# Altium schematic symbol library connectors.SchLib: 47 symbols
Pins are listed as number, name and electrical type; pins without a type are passive.

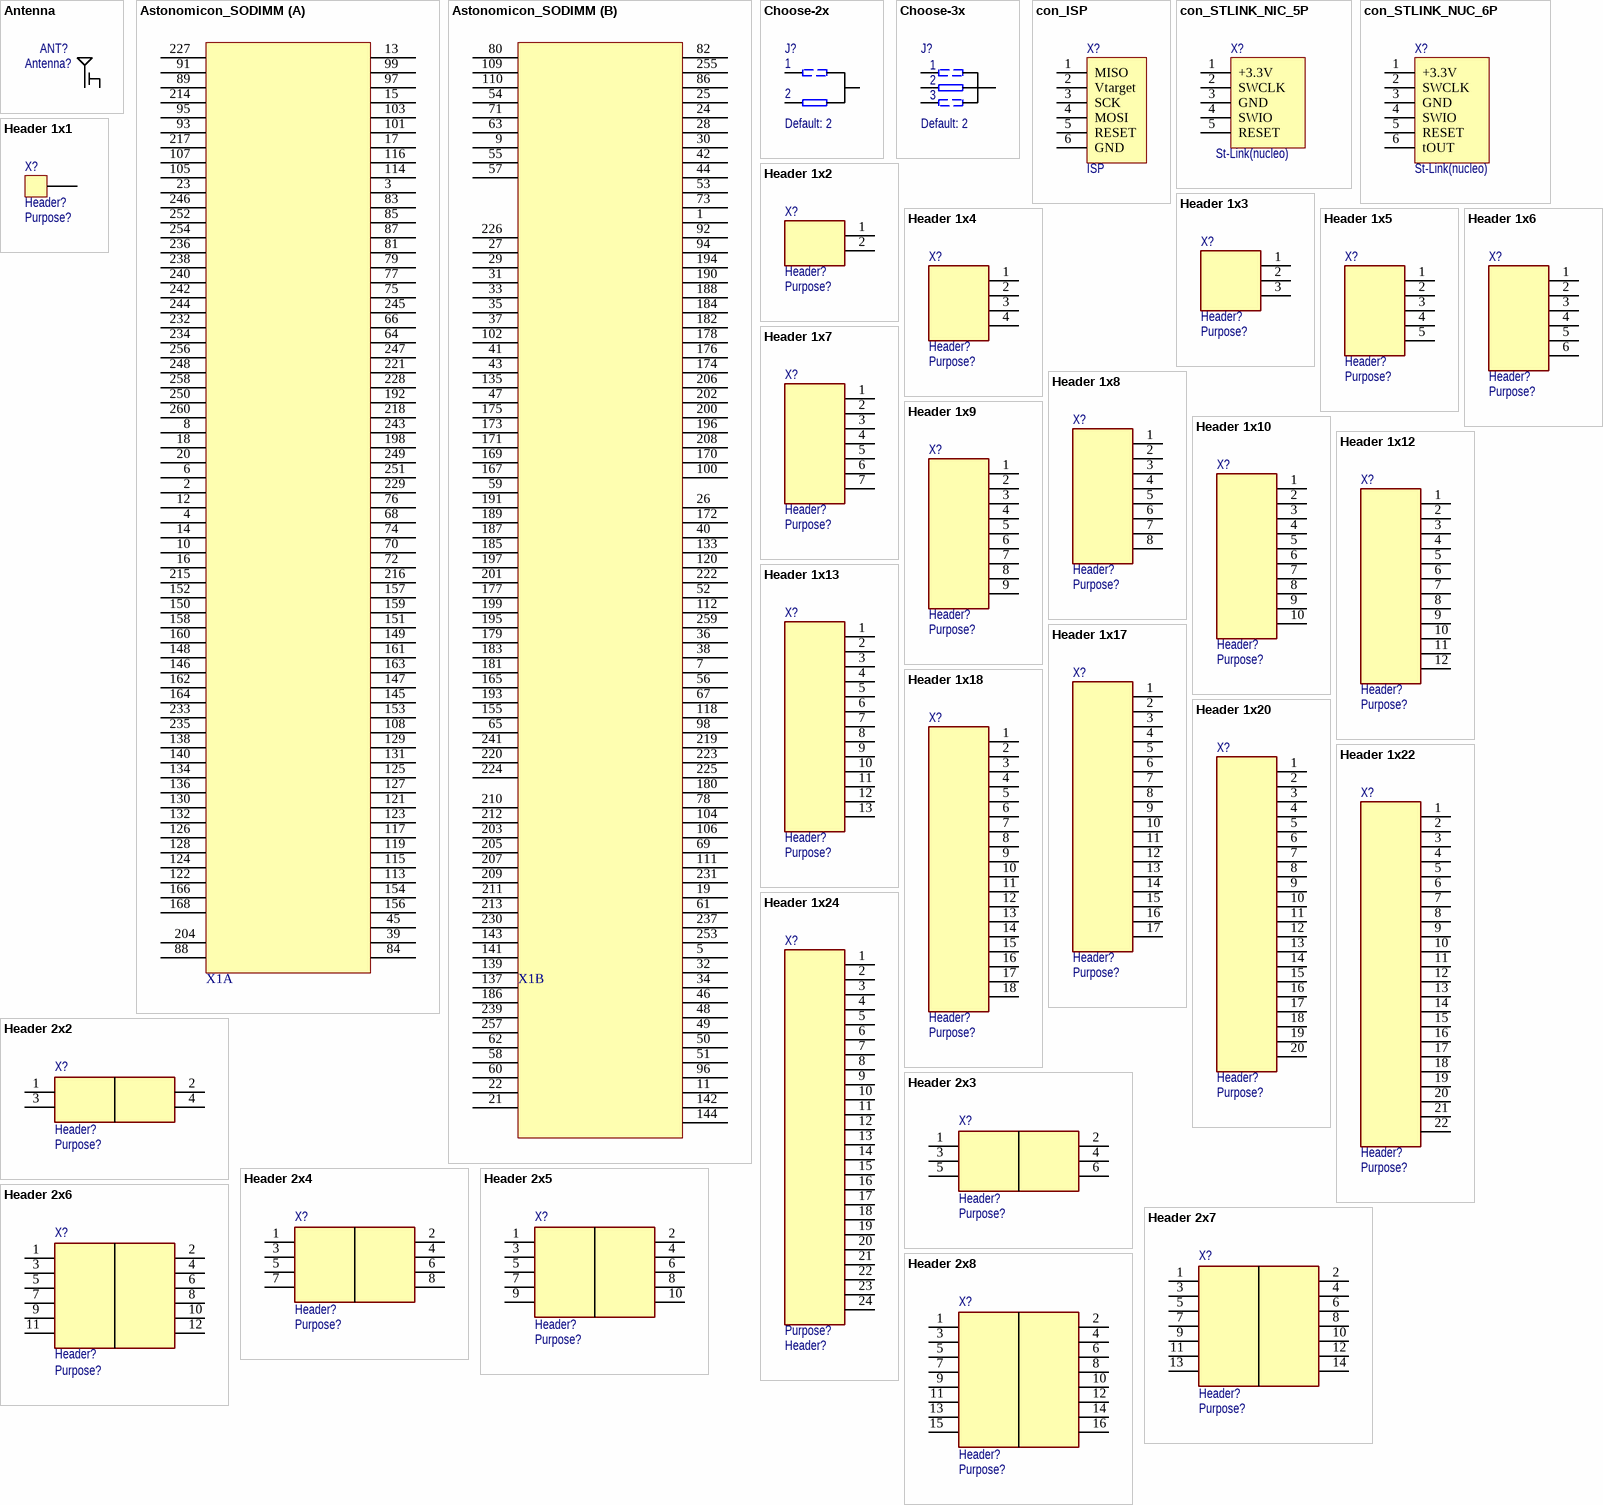
[diagram p0: symbols Antenna to Header 2x8]

## Antenna
designator ANT?, comment Antenna?
HF con; IsSMT: NoSMT
footprint SMA-SMD-F
footprint SMA-SMD-M
footprint SMA-VERT-M
footprint SMA-VERT-F
footprint SMA-SIDE-M
footprint SMA-SIDE-F
footprint IPEX-3P
pins: 0, 1

## Astonomicon_SODIMM
designator X1, comment None  (value not drawn)
DIMM connector
footprint DIMM_SOC
footprint SODIMM-260
part A pins: 2, 3, 4, 6, 8, 10, 12, 13, 14, 15, 16, 17, 18, 20, 23, 39, 45, 64, 66, 68, 70, 72, 74, 75, 76, 77, 79, 81, 83, 84, 85, 87, 88, 89, 91, 93, 95, 97, 99, 101, 103, 105, 107, 108, 113, 114, 115, 116, 117, 119, 121, 122, 123, 124, 125, 126, 127, 128, 129, 130, 131, 132, 134, 136, 138, 140, 145, 146, 147, 148, 149, 150, 151, 152, 153, 154, 156, 157, 158, 159, 160, 161, 162, 163, 164, 166, 168, 192, 198, 204, 214, 215, 216, 217, 218, 221, 227, 228, 229, 232, 233, 234, 235, 236, 238, 240, 242, 243, 244, 245, 246, 247, 248, 249, 250, 251, 252, 254, 256, 258, 260
part B pins: 1, 5, 7, 9, 11, 19, 21, 22, 24, 25, 26, 27, 28, 29, 30, 31, 32, 33, 34, 35, 36, 37, 38, 40, 41, 42, 43, 44, 46, 47, 48, 49, 50, 51, 52, 53, 54, 55, 56, 57, 58, 59, 60, 61, 62, 63, 65, 67, 69, 71, 73, 78, 80, 82, 86, 92, 94, 96, 98, 100, 102, 104, 106, 109, 110, 111, 112, 118, 120, 133, 135, 137, 139, 141, 142, 143, 144, 155, 165, 167, 169, 170, 171, 172, 173, 174, 175, 176, 177, 178, 179, 180, 181, 182, 183, 184, 185, 186, 187, 188, 189, 190, 191, 193, 194, 195, 196, 197, 199, 200, 201, 202, 203, 205, 206, 207, 208, 209, 210, 211, 212, 213, 219, 220, 222, 223, 224, 225, 226, 230, 231, 237, 239, 241, 253, 255, 257, 259

## Choose-2x
designator J?  DefaultPosition: Default: 2  (hidden comment: Choose-2x)
variable connector
footprint JUMPER_CHOOSE_2x
pins: 1 12, 2 12, 3 11

## Choose-3x
designator J?  DefaultPosition: Default: 2  (hidden comment: Choose-3x)
variable connector
footprint JUMPER_CHOOSE_3x
pins: 1 12, 2 12, 3 11, 4 12

## con_ISP
designator X?, comment ISP
3x2 header for ISP
footprint PLD-6-2.54
pins: 1 MISO, 2 Vtarget, 3 SCK, 4 MOSI, 5 RESET, 6 GND

## con_STLINK_NIC_5P
designator X?, comment St-Link(nucleo)
standart nucleo programming connector
footprint PLS-5-2.54
pins: 1 +3.3V, 2 SWCLK, 3 GND, 4 SWIO, 5 RESET

## con_STLINK_NUC_6P
designator X?, comment St-Link(nucleo)
standart nucleo programming connector
footprint PLS-6-2.54
pins: 1 +3.3V, 2 SWCLK, 3 GND, 4 SWIO, 5 RESET, 6 tOUT

## Header 1x1
designator X?, comment Header?  Purpose: Purpose?
Header 1 pin; IsSMT: NoSMT
footprint TestPoint
footprint PLS-1-2.54
pins: 1

## Header 1x2
designator X?, comment Header?  Purpose: Purpose?
2x1 header; isSMT: NoSMT
footprint PBS-2-2.54
footprint PLS-2-2.54
footprint PLS-2R-2.54
footprint CLEMM-2
footprint PicoBlade_2P
footprint CWF-2
footprint ZH-2
footprint JST_SMD_2
pins: 1, 2

## Header 1x3
designator X?, comment Header?  Purpose: Purpose?
3x1 header; IsSMT: NoSMT
footprint PBS-3-2.54
footprint PLS-3-2.54
footprint PLS-3R-2.54
pins: 1, 2 10, 3 11

## Header 1x4
designator X?, comment Header?  Purpose: Purpose?
4x1 header; IsSMT: NoSMT
footprint PLS-4-2.54
footprint PLS-4R-2.54
footprint PBS-4-2.54
footprint PicoBlade_4P
footprint JST-4_SMD_R
footprint JST_SMDR_4
pins: 1 10, 2 11, 3 12, 4 13

## Header 1x5
designator X?, comment Header?  Purpose: Purpose?
5x1 header; IsSMT: NoSMT
footprint PBS-5-2.54
footprint PLS-5-2.54
footprint PLS-5R-2.54
pins: 1 10, 2 11, 3 12, 4 13, 5 14

## Header 1x6
designator X?, comment Header?  Purpose: Purpose?
6x1 header; IsSMT: NoSMT
footprint PBS-6-2.54
footprint PLS-6-2.54
footprint PLS-6R-2.54
footprint JST-6_SMD_R
pins: 1, 2 13, 3, 4, 5, 6

## Header 1x7
designator X?, comment Header?  Purpose: Purpose?
7x1 header; IsSMT: NoSMT
footprint PBS-7-2.54
footprint PLS-7-2.54
footprint PLS-7R-2.54
pins: 1, 2 13, 3, 4, 5, 6, 7

## Header 1x8
designator X?, comment Header?  Purpose: Purpose?
8x1 header; IsSMT: NoSMT
footprint PBS-8-2.54
footprint PLS-8-2.54
footprint PLS-8R-2.54
pins: 1, 2, 3, 4, 5, 6, 7, 8

## Header 1x9
designator X?, comment Header?  Purpose: Purpose?
9x1 Header; IsSMT: NoSMT
footprint PBS-9-2.54
footprint PLS-9-2.54
footprint PLS-9R-2.54
pins: 1, 2, 3, 4, 5, 6, 7, 8, 9

## Header 1x10
designator X?, comment Header?  Purpose: Purpose?
10x1 Header; IsSMT: NoSMT
footprint PBS-10-2.54
footprint PLS-10-2.54
footprint PLS-10R-2.54
pins: 1, 2, 3, 4, 5, 6, 7, 8, 9, 10

## Header 1x12
designator X?, comment Header?  Purpose: Purpose?
10x1 Header; IsSMT: NoSMT
footprint PicoBlade_12P
footprint PLS-12-2.54
footprint PBS-12-2.54
pins: 1, 2, 3, 4, 5, 6, 7, 8, 9, 10, 11, 12

## Header 1x13
designator X?, comment Header?  Purpose: Purpose?
13x1 Header; IsSMT: NoSMT
pins: 1, 2, 3, 4, 5, 6, 7, 8, 9, 10, 11, 12, 13

## Header 1x17
designator X?, comment Header?  Purpose: Purpose?
17x1 Header; IsSMT: NoSMT
footprint PLS-17-2.54 (Footprint not found)
pins: 1, 2, 3, 4, 5, 6, 7, 8, 9, 10, 11, 12, 13, 14, 15, 16, 17

## Header 1x18
designator X?, comment Header?  Purpose: Purpose?
18x1 Header; IsSMT: NoSMT
footprint PLS-18-2.54 (Footprint not found)
pins: 1, 2, 3, 4, 5, 6, 7, 8, 9, 10, 11, 12, 13, 14, 15, 16, 17, 18

## Header 1x20
designator X?, comment Header?  Purpose: Purpose?
20x1 Header; IsSMT: NoSMT
footprint PLS-20-2.54
pins: 1, 2, 3, 4, 5, 6, 7, 8, 9, 10, 11, 12, 13, 14, 15, 16, 17, 18, 19, 20

## Header 1x22
designator X?, comment Header?  Purpose: Purpose?
20x1 Header; IsSMT: NoSMT
footprint PLS-22-2.54
pins: 1, 2, 3, 4, 5, 6, 7, 8, 9, 10, 11, 12, 13, 14, 15, 16, 17, 18, 19, 20, 21, 22

## Header 1x24
designator X?, comment Header?  Purpose: Purpose?
10x1 Header; IsSMT: NoSMT
footprint FPC_24
pins: 1, 2, 3, 4, 5, 6, 7, 8, 9, 10, 11, 12, 13, 14, 15, 16, 17, 18, 19, 20, 21, 22, 23, 24

## Header 2x2
designator X?, comment Header?  Purpose: Purpose?
2x2 header; IsSMT: NoSMT
footprint PBD-4-2.54
footprint PLD-4-2.54
pins: 1 5, 2 3, 3 6, 4

## Header 2x3
designator X?, comment Header?  Purpose: Purpose?
3x2 header; IsSMT: NoSMT
footprint PBD-6-2.54
footprint PLD-6-2.54
pins: 1 0, 2, 3, 4, 5, 6

## Header 2x4
designator X?, comment Header?  Purpose: Purpose?
4x2 header; IsSMT: NoSMT
footprint PBD-8-2.54
footprint PLD-8-2.54
pins: 1, 2 5, 3 2, 4, 5 3, 6 7, 7, 8

## Header 2x5
designator X?, comment Header?  Purpose: Purpose?
5x2 header; IsSMT: NoSMT
footprint PBD-10-2.54
footprint PLD-10-2.54
pins: 1, 2, 3, 4, 5, 6, 7, 8, 9, 10

## Header 2x6
designator X?, comment Header?  Purpose: Purpose?
6x2 header; IsSMT: NoSMT
footprint PBD-12-2.54
footprint PLD-12-2.54
pins: 1, 2, 3, 4, 5, 6, 7, 8, 9, 10, 11, 12

## Header 2x7
designator X?, comment Header?  Purpose: Purpose?
7x2 header; IsSMT: NoSMT
footprint PBD-14-2.54
footprint PLD-14-2.54
pins: 1, 2, 3, 4, 5, 6, 7, 8, 9, 10, 11, 12, 13, 14

## Header 2x8
designator X?, comment Header?  Purpose: Purpose?
8x2 header; IsSMT: NoSMT
footprint PBD-16-2.54
footprint PLD-16-2.54
pins: 1, 2, 3, 4, 5, 6, 7, 8, 9, 10, 11, 12, 13, 14, 15, 16

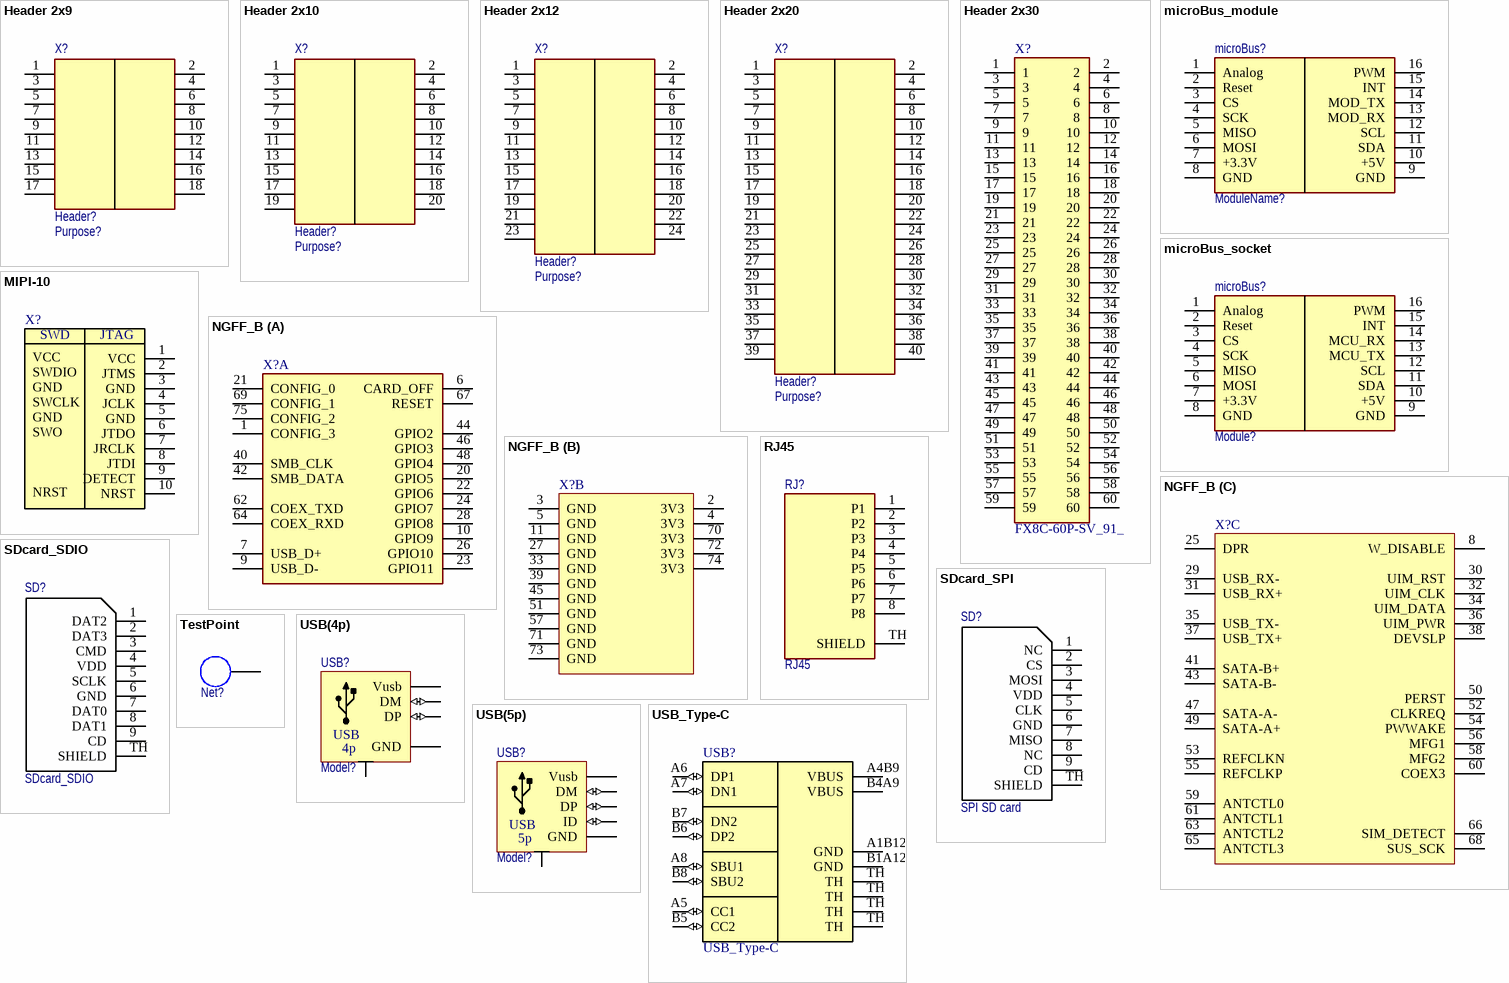
[diagram p1: symbols Header 2x9 to USB_Type-C]

## Header 2x9
designator X?, comment Header?  Purpose: Purpose?
10x2 header; IsSMT: NoSMT
pins: 1, 2, 3, 4, 5, 6, 7, 8, 9, 10, 11, 12, 13, 14, 15, 16, 17, 18

## Header 2x10
designator X?, comment Header?  Purpose: Purpose?
10x2 header; IsSMT: NoSMT
footprint PBD-20-2.54
footprint PLD-20-2.54
pins: 1, 2, 3, 4, 5, 6, 7, 8, 9, 10, 11, 12, 13, 14, 15, 16, 17, 18, 19, 20

## Header 2x12
designator X?, comment Header?  Purpose: Purpose?
10x2 header; IsSMT: NoSMT
footprint 2mm_SMD_2x12
footprint PICOSAT_CNN
footprint PICOSAT_CNN_F
pins: 1, 2, 3, 4, 5, 6, 7, 8, 9, 10, 11, 12, 13, 14, 15, 16, 17, 18, 19, 20, 21, 22, 23, 24

## Header 2x20
designator X?, comment Header?  Purpose: Purpose?
12x2 header; IsSMT: NoSMT
pins: 1, 2, 3, 4, 5, 6, 7, 8, 9, 10, 11, 12, 13, 14, 15, 16, 17, 18, 19, 20, 21, 22, 23, 24, 25, 26, 27, 28, 29, 30, 31, 32, 33, 34, 35, 36, 37, 38, 39, 40

## Header 2x30
designator X?, comment FX8C-60P-SV_91_
Connector
footprint FX8C-60S-RECEPTACLE
footprint FX8C-60P-HEADER
pins: 1, 2, 3, 4, 5, 6, 7, 8, 9, 10, 11, 12, 13, 14, 15, 16, 17, 18, 19, 20, 21, 22, 23, 24, 25, 26, 27, 28, 29, 30, 31, 32, 33, 34, 35, 36, 37, 38, 39, 40, 41, 42, 43, 44, 45, 46, 47, 48, 49, 50, 51, 52, 53, 54, 55, 56, 57, 58, 59, 60

## microBus_module
designator microBus?, comment Purpose: ModuleName?  (hidden comment: PLS-2.54-8 x2)
microBus for module; IsSMT: NoSMT
footprint MIKROBUS_MINI
footprint MIKROBUS_MIDI
footprint MIKROBUS_LARGE
pins: 1 Analog, 2 Reset, 3 CS, 4 SCK, 5 MISO, 6 MOSI, 7 +3.3V, 8 GND, 9 GND, 10 +5V, 11 SDA, 12 SCL, 13 MOD_RX, 14 MOD_TX, 15 INT, 16 PWM

## microBus_socket
designator microBus?, comment Purpose: Module?  (hidden comment: PBS-2.54-8 x2)
microBus for motherboards; IsSMT: NoSMT
footprint MIKROBUS HOST
pins: 1 Analog, 2 Reset, 3 CS, 4 SCK, 5 MISO, 6 MOSI, 7 +3.3V, 8 GND, 9 GND, 10 +5V, 11 SDA, 12 SCL, 13 MCU_TX, 14 MCU_RX, 15 INT, 16 PWM

## MIPI-10
designator X?, comment FTSH-105-01-L-DV-K  (value not drawn)
footprint MIPI-10
pins: 1 VCC, 2 JTMS, 3 GND, 4 JCLK, 5 GND, 6 JTDO, 7 JRCLK, 8 JTDI, 9 DETECT, 10 NRST
text: SWD; JTAG; SWDIO; SWCLK; SWO

## NGFF_B
designator X?, comment 2199230-3  (value not drawn)
M.2 0.5PITCH 4.2H KEY B 15U'' AU
footprint NGFF_B3_42MM
footprint NGFF_B3_30MM
part A pins: 1 CONFIG_3, 6 CARD_OFF, 7 USB_D+, 9 USB_D-, 10 GPIO9, 20 GPIO5, 21 CONFIG_0, 22 GPIO6, 23 GPIO11, 24 GPIO7, 26 GPIO10, 28 GPIO8, 40 SMB_CLK, 42 SMB_DATA, 44 GPIO2, 46 GPIO3, 48 GPIO4, 62 COEX_TXD, 64 COEX_RXD, 67 RESET, 69 CONFIG_1, 75 CONFIG_2
part B pins: 2 3V3, 3 GND, 4 3V3, 5 GND, 11 GND, 27 GND, 33 GND, 39 GND, 45 GND, 51 GND, 57 GND, 70 3V3, 71 GND, 72 3V3, 73 GND, 74 3V3
part C pins: 8 W_DISABLE, 25 DPR, 29 USB_RX-, 30 UIM_RST, 31 USB_RX+, 32 UIM_CLK, 34 UIM_DATA, 35 USB_TX-, 36 UIM_PWR, 37 USB_TX+, 38 DEVSLP, 41 SATA-B+, 43 SATA-B-, 47 SATA-A-, 49 SATA-A+, 50 PERST, 52 CLKREQ, 53 REFCLKN, 54 PWWAKE, 55 REFCLKP, 56 MFG1, 58 MFG2, 59 ANTCTL0, 60 COEX3, 61 ANTCTL1, 63 ANTCTL2, 65 ANTCTL3, 66 SIM_DETECT, 68 SUS_SCK

## RJ45
designator RJ?
footprint RJ45
pins: 1 P1, 2 P2, 3 P3, 4 P4, 5 P5, 6 P6, 7 P7, 8 P8, TH SHIELD

## SDcard_SDIO
designator SD?
footprint TF-015
footprint SD_SHORT
pins: 1 DAT2, 2 DAT3, 3 CMD, 4 VDD, 5 SCLK, 6 GND, 7 DAT0, 8 DAT1, 9 CD, TH SHIELD

## SDcard_SPI
designator SD?, comment SPI SD card
footprint TF-015
footprint SD_SHORT
pins: 1 NC, 2 CS, 3 MOSI, 4 VDD, 5 CLK, 6 GND, 7 MISO, 8 NC, 9 CD, TH SHIELD

## TestPoint
designator TestPoint?  Net: Net?  (hidden comment: TestPoint)  (no BOM)
IsSMT: NoSMT
pins: 1

## USB(4p)
designator USB?, comment Model?
USB 4-pin; IsSMT: NoSMT
footprint USB-B
footprint USB-A-TH__USB-AF-90
pins: DM (io), DP (io), GND (power), TH (power), Vusb (power)
text: 4p

## USB(5p)
designator USB?, comment Model?
USB 5-pin; IsSMT: NoSMT
footprint USB/SM0.8-4H5
footprint USB-Micro_TH
footprint USB-MICRO_vertical
footprint USB/KLS1_233
footprint USB-Micro-Mid-Mount
pins: DM (io), DP (io), GND (power), ID (io), TH (power), Vusb (power)
text: USB; 5p

## USB_Type-C
designator USB?
USB Type-C connector
footprint USB_Type-C
pins: A1B12 GND (power), A4B9 VBUS (power), A5 CC1 (io), A6 DP1 (io), A7 DN1 (io), A8 SBU1 (io), B1A12 GND (power), B4A9 VBUS (power), B5 CC2 (io), B6 DP2 (io), B7 DN2 (io), B8 SBU2 (io), TH, TH, TH, TH